# EAGLE library part MCP2542WFD (library serial_interfaces)
1/1 Transceiver CANbus 8-SOIC
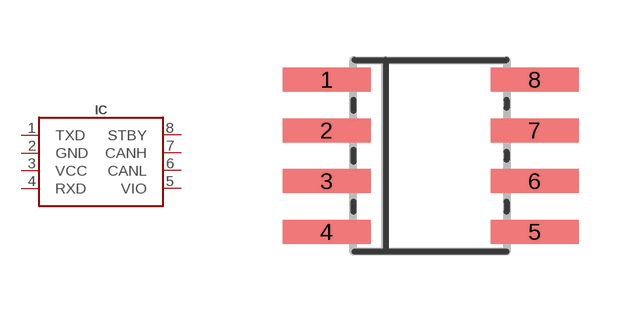
[diagram p6: symbol with the pads of SOIC8-3.9; footprint SOIC8-3.9]

Designator prefix IC

## MCP2542WFD (DIGIKEY#: MCP2542WFD-H/SN-ND; MANF: Microchip Technology; MANF#: MCP2542WFD-H/SN)  [SOIC8-3.9]
1  TXD
2  GND
3  VCC
4  RXD
5  VIO
6  CANL
7  CANH
8  STBY

## Footprint SOIC8-3.9 (pad centres in mm)
Small Outline IC
smd 2.2 x 0.6: 1 -2.6,1.905; 2 -2.6,0.635; 3 -2.6,-0.635; 4 -2.6,-1.905; 5 2.6,-1.905; 6 2.6,-0.635; 7 2.6,0.635; 8 2.6,1.905